# EAGLE library part RPI_GIO (library asrp)
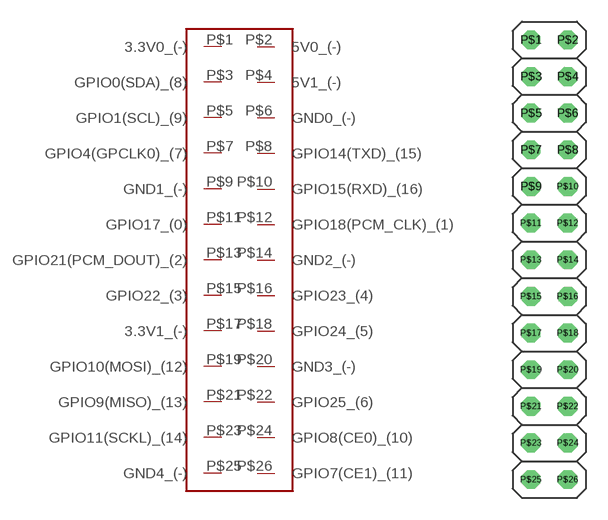
[diagram p0: symbol with the pads of 2X13; footprint 2X13]

Designator prefix -

## RPI_GIOTHROUGHHOLE  [2X13]
P$1  3.3V0_(-)
P$2  5V0_(-)
P$3  GPIO0(SDA)_(8)
P$4  5V1_(-)
P$5  GPIO1(SCL)_(9)
P$6  GND0_(-)
P$7  GPIO4(GPCLK0)_(7)
P$8  GPIO14(TXD)_(15)
P$9  GND1_(-)
P$10  GPIO15(RXD)_(16)
P$11  GPIO17_(0)
P$12  GPIO18(PCM_CLK)_(1)
P$13  GPIO21(PCM_DOUT)_(2)
P$14  GND2_(-)
P$15  GPIO22_(3)
P$16  GPIO23_(4)
P$17  3.3V1_(-)
P$18  GPIO24_(5)
P$19  GPIO10(MOSI)_(12)
P$20  GND3_(-)
P$21  GPIO9(MISO)_(13)
P$22  GPIO25_(6)
P$23  GPIO11(SCKL)_(14)
P$24  GPIO8(CE0)_(10)
P$25  GND4_(-)
P$26  GPIO7(CE1)_(11)

## Footprint 2X13 (pad centres in mm)
drill 0.8 octagon: P$1 -1.27,15.24; P$2 1.27,15.24; P$3 -1.27,12.7; P$4 1.27,12.7; P$5 -1.27,10.16; P$6 1.27,10.16; P$7 -1.27,7.62; P$8 1.27,7.62; P$9 -1.27,5.08; P$10 1.27,5.08; P$11 -1.27,2.54; P$12 1.27,2.54; P$13 -1.27,0; P$14 1.27,0; P$15 -1.27,-2.54; P$16 1.27,-2.54; P$17 -1.27,-5.08; P$18 1.27,-5.08; P$19 -1.27,-7.62; P$20 1.27,-7.62; P$21 -1.27,-10.16; P$22 1.27,-10.16; P$23 -1.27,-12.7; P$24 1.27,-12.7; P$25 -1.27,-15.24; P$26 1.27,-15.24